# Altium schematic symbol library IND.SchLib: 1 symbol
Pins are listed as number, name and electrical type; pins without a type are passive.

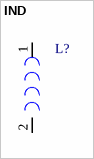
[diagram p0: symbol IND]

## IND
designator L?
IND FER BEAD 100 OHM@100MHZ 1A 25% 0603
pins: 1, 2